# Altium schematic symbol library CN-miniUSB-5P-B.SchLib: 1 symbol
Pins are listed as number, name and electrical type; pins without a type are passive.

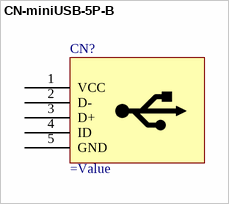
[diagram p0: symbol CN-miniUSB-5P-B]

## CN-miniUSB-5P-B
designator CN?
=Description; Part number: USB-B-Mini
footprint USB-B-Mini
footprint USB_B_MINI_SMD
pins: 1 VCC, 2 D-, 3 D+, 4 ID, 5 GND